# EAGLE library part B7B-PH (library con-jst-ph)
JST PH series header 2.00mm pitch disconnectable crimp style connectors, vertical (side entry type), 7 pins
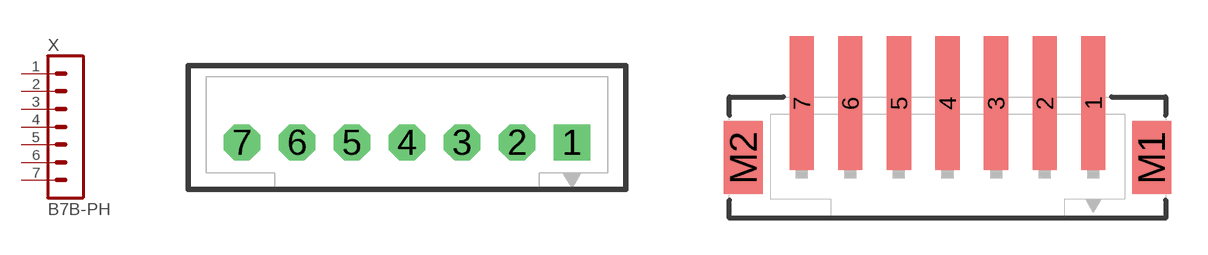
[diagram p1: symbol with the pads of B7B-PH-KL-S; footprints B7B-PH-KL-S, B7B-PH-SM4-TB]

Designator prefix X

## B7B-PH-KL-S  [B7B-PH-KL-S]
1  1  pas
2  2  pas
3  3  pas
4  4  pas
5  5  pas
6  6  pas
7  7  pas

## B7B-PH-SM4-TB  [B7B-PH-SM4-TB]
Pads as for B7B-PH-KL-S

## Footprint B7B-PH-KL-S (pad centres in mm)
JST PH series header 2.00mm pitch disconnectable crimp style connectors, through-hole vertical (top entry type), 7 pins
drill 0.7 pad 1.321 square: 1 6,0
drill 0.7 pad 1.321 octagon: 2 4,0; 3 2,0; 4 0,0; 5 -2,0; 6 -4,0; 7 -6,0

## Footprint B7B-PH-SM4-TB (pad centres in mm)
JST PH series header 2.00mm pitch disconnectable crimp style connectors, SMT vertical (top entry type), 7 pins
smd 1 x 5.5: 1 6,0; 2 4,0; 3 2,0; 4 0,0; 5 -2,0; 6 -4,0; 7 -6,0
smd 1.6 x 3: M1 8.4,-2.25; M2 -8.4,-2.25